# EAGLE library part ER-OLED011-1 (library SKAARHOJ)
UG-2864HSWEG01 OLED display Both 1.3" and 0.96" models share the same FPC tab footprint, only the screen dimensions vary.
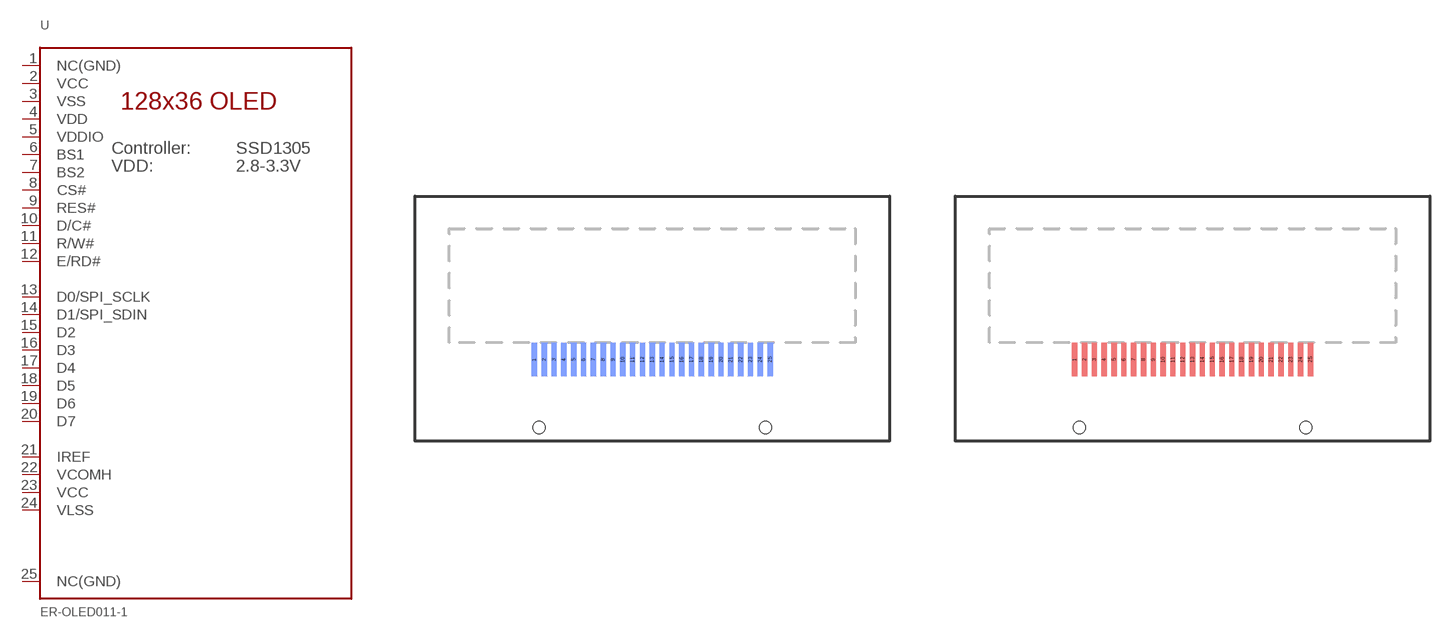
[diagram p20: symbol with the pads of ER-OLED011-1_WRAPAROUND; footprints ER-OLED011-1_WRAPAROUND, ER-OLED011-1]

Designator prefix U

## ER-OLED011-1  [ER-OLED011-1_WRAPAROUND]
1  NC(GND)  in
2  VCC  pwr
3  VSS  pwr
4  VDD  pwr
5  VDDIO  pwr
6  BS1  in
7  BS2  in
8  CS#  in
9  RES#  in
10  D/C#  in
11  R/W#  in
12  E/RD#  in
13  D0/SPI_SCLK
14  D1/SPI_SDIN
15  D2
16  D3
17  D4
18  D5
19  D6
20  D7
21  IREF  in
22  VCOMH  out
23  VCC  pwr
24  VLSS  pwr
25  NC(GND)  in

## ER-OLED011-1TOP  [ER-OLED011-1]
Pads as for ER-OLED011-1_WRAPAROUND

## Footprint ER-OLED011-1_WRAPAROUND (pad centres in mm)
smd 0.35 x 2.2 bottom: 1 -7.8,-2.7; 2 -7.15,-2.7; 3 -6.5,-2.7; 4 -5.85,-2.7; 5 -5.2,-2.7; 6 -4.55,-2.7; 7 -3.9,-2.7; 8 -3.25,-2.7; 9 -2.6,-2.7; 10 -1.95,-2.7; 11 -1.3,-2.7; 12 -0.65,-2.7; 13 0,-2.7; 14 0.65,-2.7; 15 1.3,-2.7; 16 1.95,-2.7; 17 2.6,-2.7; 18 3.25,-2.7; 19 3.9,-2.7; 20 4.55,-2.7; 21 5.2,-2.7; 22 5.85,-2.7; 23 6.5,-2.7; 24 7.15,-2.7; 25 7.8,-2.7
hole 0.8 at -7.5,-7.2
hole 0.8 at 7.5,-7.2

## Footprint ER-OLED011-1 (pad centres in mm)
smd 0.35 x 2.2: 1 -7.8,-2.7; 2 -7.15,-2.7; 3 -6.5,-2.7; 4 -5.85,-2.7; 5 -5.2,-2.7; 6 -4.55,-2.7; 7 -3.9,-2.7; 8 -3.25,-2.7; 9 -2.6,-2.7; 10 -1.95,-2.7; 11 -1.3,-2.7; 12 -0.65,-2.7; 13 0,-2.7; 14 0.65,-2.7; 15 1.3,-2.7; 16 1.95,-2.7; 17 2.6,-2.7; 18 3.25,-2.7; 19 3.9,-2.7; 20 4.55,-2.7; 21 5.2,-2.7; 22 5.85,-2.7; 23 6.5,-2.7; 24 7.15,-2.7; 25 7.8,-2.7
hole 0.8 at -7.5,-7.2
hole 0.8 at 7.5,-7.2